# Altium schematic symbol library Schlib1.SchLib: 52 symbols (part 1 of 2)
Pins are listed as number, name and electrical type; pins without a type are passive.

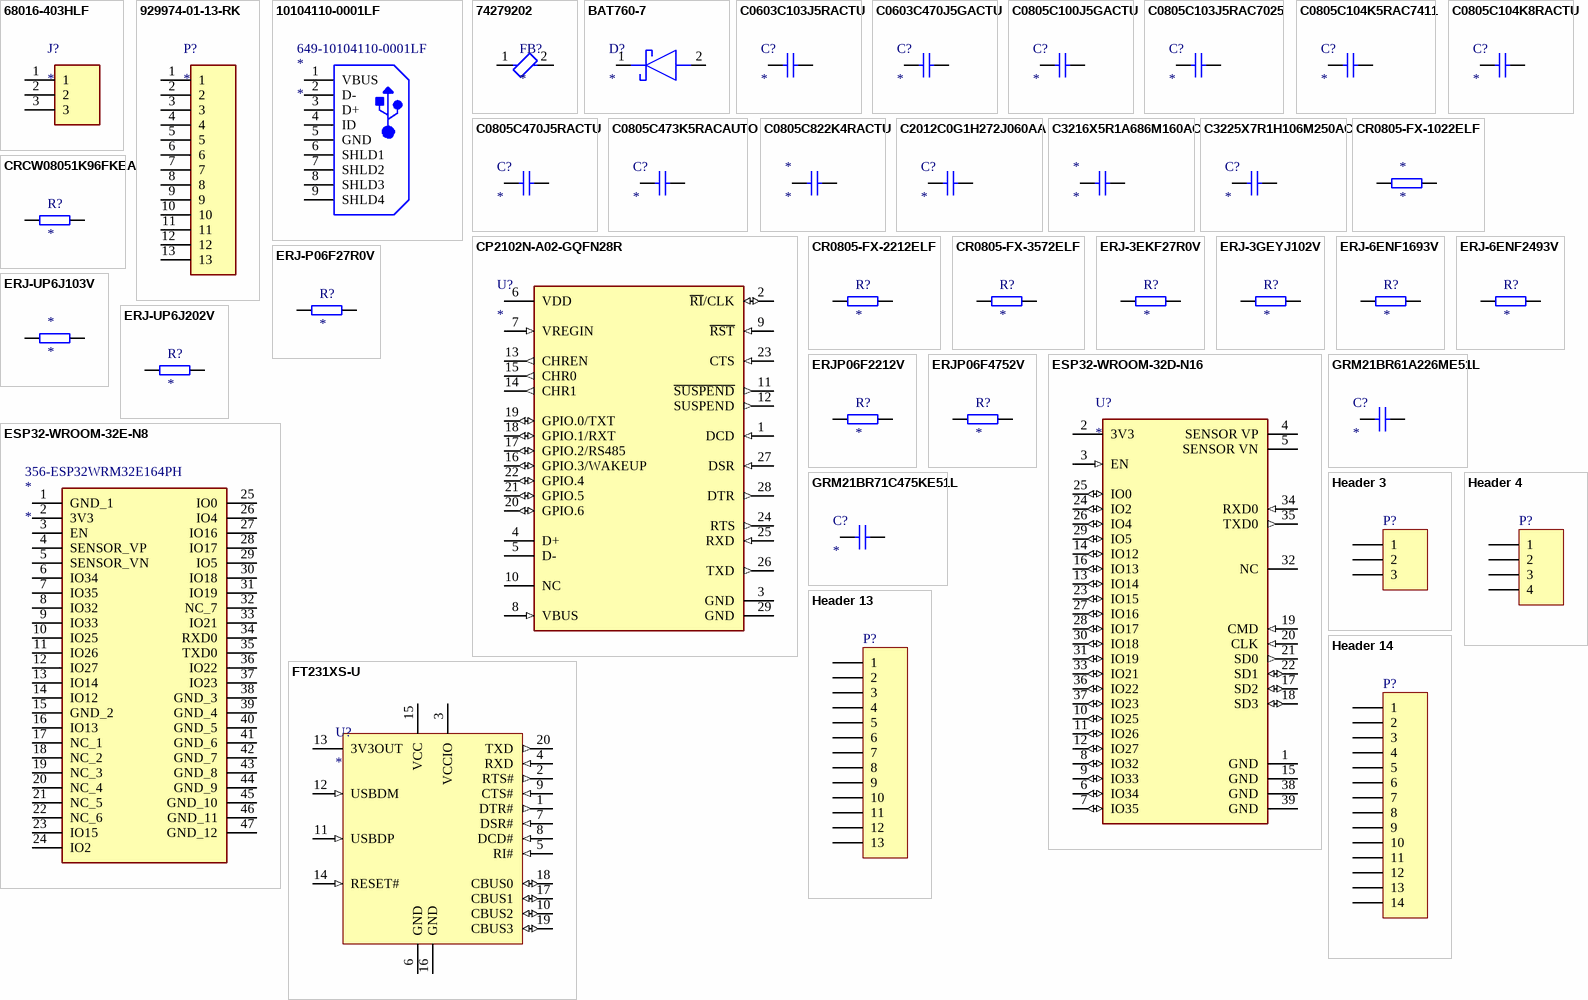
[diagram p0: symbols 68016-403HLF to Header 14]

## 68016-403HLF
designator J?
Conn Unshrouded Header HDR 3 POS 2.54mm Solder RA Side Entry Thru-Hole BergStik® Bulk; Manufacturer: Amphenol ICC / FCI; Manufacturer Part Number: 68016-403HLF; Supplier 1: Mouser; RoHS: Yes; Category: Headers and Wire Housings; Stock 1: 11331; Pricing 1: 1=0,18000, 10=0,09000, 50=0,09000, 100=0,08600, 1000=0,07500, 10000=0,06200 (USD); ComponentLink1URL: https://datasheet.ciiva.com/18653/68015-18653356.pdf?src-supplier=Digi-Key; ComponentLink1Description: https://datasheet.ciiva.com/18653/68015-18653356.pdf?src-supplier=Digi-Key; Supplier Part Number 1: 649-68016-403HLF
footprint HDRRA3W67P0X254_1X3_762X254X241P
pins: 1, 2, 3

## 929974-01-13-RK
designator P?
13/.100/STR/SKT/1R/.125/BM/TIN/ROHS Boardmount Socket, 929 Series; Manufacturer: 3M; Manufacturer Part Number: 929974-01-13-RK; Supplier 1: Mouser; RoHS: Yes; Category: Headers and Wire Housings; Stock 1: 368; Pricing 1: 1=2,42000, 10=1,97000, 50=1,97000, 100=1,88000, 1000=1,56000, 10000=1,18000 (USD); ComponentLink1URL: https://datasheet.ciiva.com/746/ts0815-746425.pdf?src-supplier=Digi-Key; ComponentLink1Description: https://datasheet.ciiva.com/746/ts0815-746425.pdf?src-supplier=Digi-Key; Supplier Part Number 1: 517-929974-01-13-RK
footprint RHDR13W76P0X254_1X13_3302X254X826P
pins: 1, 2, 3, 4, 5, 6, 7, 8, 9, 10, 11, 12, 13

## 10104110-0001LF
designator *  Supplier Part Number 1: 649-10104110-0001LF
Conn Micro USB 2.0 Type B RCP 5 POS 0.65mm Solder RA SMD 5 Terminal 1 Port T/R; Manufacturer: Amphenol ICC / FCI; Manufacturer Part Number: 10104110-0001LF; Supplier 1: Mouser; RoHS: No; Category: USB Connectors; Stock 1: 23329; Pricing 1: 1=0,83000, 10=0,65600, 50=0,65600, 100=0,57100, 1000=0,45600, 10000=0,40800 (USD); ComponentLink1URL: https://datasheet.ciiva.com/11731/0900766b80ed1ae6-11731334.pdf?src-supplier=RSComponents; ComponentLink1Description: https://datasheet.ciiva.com/11731/0900766b80ed1ae6-11731334.pdf?src-supplier=RSComponents; ComponentLink2URL: https://datasheet.ciiva.com/5726/10104110-5726973.pdf?src-supplier=Farnell; ComponentLink2Description: https://datasheet.ciiva.com/5726/10104110-5726973.pdf?src-supplier=Farnell
footprint 101041100001LF
pins: 1 VBUS (power), 2 D-, 3 D+, 4 ID, 5 GND (power), 6 SHLD1, 7 SHLD2, 8 SHLD3, 9 SHLD4

## 74279202
designator FB?
Ferrite SMD Construction form: 0805 DC resistance: 0.1 Ohm Impedance @ 100 MHz: 120 Ohm; Manufacturer: Wurth Electronics; Manufacturer Part Number: 74279202; Tolerance: 25%; Impedance: 120R; Max Current Rating: 500mA; DC Resistance (DCR): 100mR; Test Frequency: 100MHz; Number of Lines: 1; Supplier 1: Mouser; RoHS: Yes; Category: Ferrite Beads and Chips; Mount: Surface Mount; Case/Package: SMD/SMT; Case Code (Metric): 2012; Case Code (Imperial): 0805; Weight: 0.000388oz; Min Operating Temperature: -55°C; Max Operating Temperature: 125°C; Package Quantity: 1; Packaging: Tape and Reel; Max DC Current: 500mA; Termination: SMD/SMT; Series: WE-CBF; Current Rating: 500mA; Resistance: 100mR; Length: 2mm; Width: 1.2mm; Height: 0.9mm; Depth: 1.24mm; REACH SVHC: Unknown; RoHS Compliant: Yes; Lead Free: Lead Free; ComponentLink1URL: https://datasheet.ciiva.com/1126/1696029-1126528.pdf?src-supplier=Element14; ComponentLink1Description: https://datasheet.ciiva.com/1126/1696029-1126528.pdf?src-supplier=Element14; ComponentLink2URL: https://datasheet.ciiva.com/11795/0900766b80bbd134-11795958.pdf?src-supplier=RSComponents; ComponentLink2Description: https://datasheet.ciiva.com/11795/0900766b80bbd134-11795958.pdf?src-supplier=RSComponents; ComponentLink3URL: https://datasheet.ciiva.com/4940/74279202-50314-4940485.pdf?src-supplier=Mouser; ComponentLink3Description: https://datasheet.ciiva.com/4940/74279202-50314-4940485.pdf?src-supplier=Mouser; ComponentLink4URL: https://datasheet.ciiva.com/6212/74279202-6212647.pdf?src-supplier=Digi-Key; ComponentLink4Description: https://datasheet.ciiva.com/6212/74279202-6212647.pdf?src-supplier=Digi-Key; ComponentLink5URL: https://datasheet.ciiva.com/22711/1696029-22711339.pdf?src-supplier=Element14; ComponentLink5Description: https://datasheet.ciiva.com/22711/1696029-22711339.pdf?src-supplier=Element14; ComponentLink6URL: https://datasheet.ciiva.com/6212/74279202-6212651.pdf?src-supplier=Digi-Key; ComponentLink6Description: https://datasheet.ciiva.com/6212/74279202-6212651.pdf?src-supplier=Digi-Key; ComponentLink7URL: https://datasheet.ciiva.com/6212/74279202-6212654.pdf?src-supplier=Digi-Key; ComponentLink7Description: https://datasheet.ciiva.com/6212/74279202-6212654.pdf?src-supplier=Digi-Key; Supplier Part Number 1: 710-74279202
footprint SMD-0805 (Chip Inductor, 2-Leads, Body 2.0x1.2mm)
pins: 1, 2

## BAT760-7
designator D?
VR=30V IF=1A 25pF P=235mW; Manufacturer: Diodes; Manufacturer Part Number: BAT760-7; Forward Current: 1A; Max Repetitive Reverse Voltage (Vrrm): 30V; Peak Non-Repetitive Surge Current: 5.5A; Element Configuration: Single; Max Power Dissipation: 235mW; Forward Voltage: 550mV; Max Reverse Current: 50uA; Polarity: Standard; Supplier 1: Mouser; RoHS: Yes; Category: Schottky Diodes; Stock 1: 2322; Pricing 1: 1=0,57000, 10=0,49500, 50=0,49500, 100=0,37000, 1000=0,22500, 10000=0,17300 (USD); Mount: Surface Mount; Number of Pins: 2; Weight: 0.000173oz; Contact Plating: Tin,Matte; Min Operating Temperature: -65°C; Max Operating Temperature: 150°C; Package Quantity: 3000; Packaging: Tape and Reel; Max Forward Surge Current (Ifsm): 5.5A; Average Rectified Current: 1A; Termination: SMD/SMT; Voltage Rating (DC): 30V; Current Rating: 1A; Capacitance: 25pF; Output Current: 1A; Max Reverse Voltage (DC): 30V; Series: -; Length: 1.8mm; Width: 1.4mm; Height: 1mm; Radiation Hardening: No; REACH SVHC: No SVHC; Lead Free: Lead Free; RoHS Compliant: Yes; ComponentLink1URL: https://datasheet.ciiva.com/1178/ds30498-1178033.pdf?src-supplier=Element14; ComponentLink1Description: https://datasheet.ciiva.com/1178/ds30498-1178033.pdf?src-supplier=Element14; ComponentLink2URL: https://datasheet.ciiva.com/4715/ds30498-63155-4715521.pdf?src-supplier=Mouser; ComponentLink2Description: https://datasheet.ciiva.com/4715/ds30498-63155-4715521.pdf?src-supplier=Mouser; ComponentLink3URL: https://datasheet.ciiva.com/8301/ds30498-8301400.pdf?src-supplier=Avnet; ComponentLink3Description: https://datasheet.ciiva.com/8301/ds30498-8301400.pdf?src-supplier=Avnet; ComponentLink4URL: https://datasheet.ciiva.com/22695/1670989-22695799.pdf?src-supplier=Element14; ComponentLink4Description: https://datasheet.ciiva.com/22695/1670989-22695799.pdf?src-supplier=Element14; ComponentLink5URL: https://datasheet.ciiva.com/914/ds30498-914552.pdf?src-supplier=Digi-Key; ComponentLink5Description: https://datasheet.ciiva.com/914/ds30498-914552.pdf?src-supplier=Digi-Key; ComponentLink6URL: https://datasheet.ciiva.com/914/ds30498-914553.pdf?src-supplier=Digi-Key; ComponentLink6Description: https://datasheet.ciiva.com/914/ds30498-914553.pdf?src-supplier=Digi-Key; ComponentLink7URL: https://datasheet.ciiva.com/914/ds30498-914551.pdf?src-supplier=Digi-Key; ComponentLink7Description: https://datasheet.ciiva.com/914/ds30498-914551.pdf?src-supplier=Digi-Key; Supplier Part Number 1: 621-BAT760-7
footprint SOD2513X120N
pins: 1 K, 2 A

## C0603C103J5RACTU
designator C?
Cap Ceramic 0.01uF 50V X7R 5% SMD 0603 125C T/R; Manufacturer: KEMET; Manufacturer Part Number: C0603C103J5RACTU; Capacitance: 10nF; Dissipation Factor: 2.5%; Supplier 1: Mouser; RoHS: Yes; Category: Ceramic Capacitors; Stock 1: 1307405; Pricing 1: 1=0,10000, 10=0,03200, 50=0,03200, 100=0,01700, 500=0,01400, 1000=0,01100, 4000=0,00900, 10000=0,00900, 12000=0,00800 (USD); Mount: Surface Mount,PCB; Case/Package: 0603; Number of Pins: 2; Contact Plating: Tin,Matte; Case Code (Imperial): 0603; Case Code (Metric): 1608; Dielectric Material: Ceramic; Min Operating Temperature: -55°C; Max Operating Temperature: 125°C; Tolerance: 5%; Packaging: Tape and Reel; Dielectric: X7R; Package Quantity: 1; Series: C; Voltage Rating: 50V; Voltage Rating (DC): 50V; Termination: SMD/SMT; Construction: Flat; Voltage: 50V; Length: 1.6mm; Width: 0.031inch; Height: 0.8mm; Depth: 0.8mm; Thickness: 0.034inch; Lead Pitch: 0.7mm; Radiation Hardening: No; REACH SVHC: No SVHC; RoHS Compliant: Yes; ComponentLink1URL: https://datasheet.ciiva.com/22749/kem-c1002-x7r-smd-22749720.pdf?src-supplier=Element14; ComponentLink1Description: https://datasheet.ciiva.com/22749/kem-c1002-x7r-smd-22749720.pdf?src-supplier=Element14; ComponentLink2URL: https://datasheet.ciiva.com/26847/getdatasheetpartid-317400-26847516.pdf?src-supplier=Verical; ComponentLink2Description: https://datasheet.ciiva.com/26847/getdatasheetpartid-317400-26847516.pdf?src-supplier=Verical; Supplier Part Number 1: 80-C0603C103J5R
footprint FP-C0603C-CF-IPC_A
footprint FP-C0603C-CF-IPC_B
footprint FP-C0603C-CF-IPC_C
footprint FP-C0603C-CF-MFG
pins: 1, 2

## C0603C470J5GACTU
designator C?
Cap Ceramic 47pF 50V C0G 5% Pad SMD 0603 125°C Extreme Low ESR T/R; Manufacturer: KEMET; Manufacturer Part Number: C0603C470J5GACTU; Temperature Coefficient: 30ppm/°C; Supplier 1: Mouser; RoHS: Yes; Category: Ceramic Capacitors; Stock 1: 161090; Pricing 1: 1=0,22000, 10=0,10400, 50=0,10400, 100=0,06300, 500=0,05600, 1000=0,04700, 4000=0,03700, 10000=0,03700 (USD); Mount: Surface Mount,PCB; Case/Package: 0603; Number of Pins: 2; Case Code (Imperial): 0603; Case Code (Metric): 1608; Contact Material: Tin; Contact Plating: Tin,Matte; Dielectric Material: Ceramic; Min Operating Temperature: -55°C; Max Operating Temperature: 125°C; Capacitance: 47pF; Tolerance: 5%; Voltage Rating: 50V; Voltage Rating (DC): 50V; Package Quantity: 1; Packaging: Tape and Reel; Dielectric: C0G; Termination: SMD/SMT; Voltage: 50V; Series: C; Construction: Flat; Length: 1.6mm; Width: 0.031inch; Height: 0.8mm; Lead Pitch: 0.7mm; Thickness: 0.034inch; Depth: 0.8mm; Radiation Hardening: No; REACH SVHC: No SVHC; Lead Free: Lead Free; RoHS Compliant: Yes; ComponentLink1URL: https://datasheet.ciiva.com/144/docfinderpartnumber-c0603c470j5gactu-144266.pdf?src-supplier=Digi-Key; ComponentLink1Description: https://datasheet.ciiva.com/144/docfinderpartnumber-c0603c470j5gactu-144266.pdf?src-supplier=Digi-Key; ComponentLink2URL: https://datasheet.ciiva.com/7823/kem-c1003-c0g-smd-7823781.pdf?src-supplier=Element14; ComponentLink2Description: https://datasheet.ciiva.com/7823/kem-c1003-c0g-smd-7823781.pdf?src-supplier=Element14; ComponentLink3URL: https://datasheet.ciiva.com/7823/kem-c1003-c0g-smd-7823782.pdf?src-supplier=Element14; ComponentLink3Description: https://datasheet.ciiva.com/7823/kem-c1003-c0g-smd-7823782.pdf?src-supplier=Element14; ComponentLink4URL: https://datasheet.ciiva.com/14588/70095383-14588998.pdf?src-supplier=Allied+Electronics; ComponentLink4Description: https://datasheet.ciiva.com/14588/70095383-14588998.pdf?src-supplier=Allied+Electronics; ComponentLink5URL: https://datasheet.ciiva.com/32432/kem-c1003-c0g-eng-tds-32432423.pdf?src-supplier=Distrelec; ComponentLink5Description: https://datasheet.ciiva.com/32432/kem-c1003-c0g-eng-tds-32432423.pdf?src-supplier=Distrelec; ComponentLink6URL: https://datasheet.ciiva.com/18193/getdatasheetpartid-120905-18193050.pdf?src-supplier=Verical; ComponentLink6Description: https://datasheet.ciiva.com/18193/getdatasheetpartid-120905-18193050.pdf?src-supplier=Verical; Supplier Part Number 1: 80-C0603C470J5G
footprint FP-C0603C-CF-IPC_A
footprint FP-C0603C-CF-IPC_B
footprint FP-C0603C-CF-IPC_C
footprint FP-C0603C-CF-MFG
pins: 1, 2

## C0805C100J5GACTU
designator C?
Cap Ceramic 10pF 50V C0G 5% SMD 0805 125C Plastic T/R; Manufacturer: KEMET; Manufacturer Part Number: C0805C100J5GACTU; Temperature Coefficient: 30ppm/°C; Dissipation Factor: 0.1%; Supplier 1: Mouser; RoHS: Yes; Category: Ceramic Capacitors; Stock 1: 194709; Pricing 1: 1=0,12000, 10=0,04800, 50=0,04800, 100=0,03200, 500=0,02300, 1000=0,01900, 4000=0,01800, 8000=0,01500, 10000=0,01500 (USD); Mount: PCB,Surface Mount; Case/Package: 0805; Number of Pins: 2; Case Code (Metric): 2012; Case Code (Imperial): 0805; Contact Material: Tin; Contact Plating: Tin,Matte; Dielectric Material: Ceramic; Min Operating Temperature: -55°C; Max Operating Temperature: 125°C; Capacitance: 10pF; Tolerance: 5%; Package Quantity: 4000; Voltage Rating: 50V; Packaging: Tape and Reel; Voltage Rating (DC): 50V; Dielectric: C0G; Termination: SMD/SMT; Voltage: 50V; Series: C0805C; Construction: Flat; Length: 2mm; Width: 1.2mm; Height: 0.78mm; Thickness: 0.035inch; Lead Pitch: 0.75mm; Depth: 1.25mm; Radiation Hardening: No; REACH SVHC: No SVHC; Lead Free: Lead Free; RoHS Compliant: Yes; ComponentLink1URL: https://datasheet.ciiva.com/6177/kem-c1003-c0g-smd-6177333.pdf?src-supplier=Farnell; ComponentLink1Description: https://datasheet.ciiva.com/6177/kem-c1003-c0g-smd-6177333.pdf?src-supplier=Farnell; ComponentLink2URL: https://datasheet.ciiva.com/14609/70095383-14609227.pdf?src-supplier=Allied+Electronics; ComponentLink2Description: https://datasheet.ciiva.com/14609/70095383-14609227.pdf?src-supplier=Allied+Electronics; ComponentLink3URL: https://datasheet.ciiva.com/5423/kem-c1003-c0g-smd-356956-5423483.pdf?src-supplier=Mouser; ComponentLink3Description: https://datasheet.ciiva.com/5423/kem-c1003-c0g-smd-356956-5423483.pdf?src-supplier=Mouser; ComponentLink4URL: https://datasheet.ciiva.com/2988/kem-c1003-c0g-smd-2988556.pdf?src-supplier=Avnet; ComponentLink4Description: https://datasheet.ciiva.com/2988/kem-c1003-c0g-smd-2988556.pdf?src-supplier=Avnet; Supplier Part Number 1: 80-C0805C100J5G
footprint FP-C0805C-DN-IPC_A
footprint FP-C0805C-DN-IPC_B
footprint FP-C0805C-DN-IPC_C
footprint FP-C0805C-DN-MFG
pins: 1, 2

## C0805C103J5RAC7025
designator C?
Cap Ceramic 0.01uF 50V X7R 5% SMD 0805 125°C Paper T/R; Manufacturer: KEMET; Manufacturer Part Number: C0805C103J5RAC7025; Capacitance: 10nF; Supplier 1: Mouser; RoHS: Yes; Category: Ceramic Capacitors; Stock 1: 20879; Pricing 1: 1=0,12000, 10=0,07600, 50=0,07600, 100=0,03600, 1000=0,02300, 10000=0,01800 (USD); Mount: Surface Mount; Case/Package: 0805; Case Code (Imperial): 0805; Case Code (Metric): 2012; Dielectric Material: Ceramic; Min Operating Temperature: -55°C; Max Operating Temperature: 125°C; Tolerance: 5%; Dielectric: X7R; Packaging: Tape and Reel; Package Quantity: 4000; Voltage Rating: 50V; Voltage Rating (DC): 50V; Termination: SMD/SMT; Series: C0805C; Construction: Flat; Length: 2mm; Height: 0.78mm; Depth: 1.25mm; Lead Pitch: 0.75mm; Radiation Hardening: No; RoHS Compliant: Yes; ComponentLink1URL: http://www.mouser.com/ds/2/212/KEM_C1002_X7R_SMD-1102033.pdf?src-supplier=Mouser; ComponentLink1Description: http://www.mouser.com/ds/2/212/KEM_C1002_X7R_SMD-1102033.pdf?src-supplier=Mouser; Supplier Part Number 1: 80-C0805C103J5RACTM
footprint FP-C0805C-DN-IPC_A
footprint FP-C0805C-DN-IPC_B
footprint FP-C0805C-DN-IPC_C
footprint FP-C0805C-DN-MFG
pins: 1, 2

## C0805C104K5RAC7411
designator C?
Cap Ceramic 0.1uF 50V X7R 10% SMD 0805 125°C Paper T/R; Manufacturer: KEMET; Manufacturer Part Number: C0805C104K5RAC7411; Capacitance: 100nF; Supplier 1: Mouser; RoHS: Yes; Category: Ceramic Capacitors; Stock 1: 1484324; Pricing 1: 1=0,13000, 10=0,09300, 50=0,09300, 100=0,04400, 500=0,03100, 1000=0,02600, 2500=0,02400, 5000=0,02200, 10000=0,02100, 15000=0,02000 (USD); Mount: Surface Mount; Case/Package: 0805; Dielectric Material: Ceramic; Min Operating Temperature: -55°C; Max Operating Temperature: 125°C; Packaging: Tape and Reel; Tolerance: 10%; Dielectric: X7R; Voltage Rating (DC): 50V; Construction: Flat; Length: 2mm; Height: 0.9mm; Depth: 1.25mm; Radiation Hardening: No; RoHS Compliant: Yes; ComponentLink1URL: http://components.arrow.com/part/dataview/30748302S8994022N7429?src-supplier=Arrow+Electronics; ComponentLink1Description: http://components.arrow.com/part/dataview/30748302S8994022N7429?src-supplier=Arrow+Electronics; ComponentLink2URL: https://www.verical.com/server-webapp/html/getDatasheet?partID=248513&src-supplier=Verical; ComponentLink2Description: https://www.verical.com/server-webapp/html/getDatasheet?partID=248513&src-supplier=Verical; Supplier Part Number 1: 80-C0805C104K5RACLR
footprint FP-C0805C-DN-IPC_A
footprint FP-C0805C-DN-IPC_B
footprint FP-C0805C-DN-IPC_C
footprint FP-C0805C-DN-MFG
pins: 1, 2

## C0805C104K8RACTU
designator C?
Cap Ceramic 0.1uF 10V X7R 10% SMD 0805 125°C Paper T/R; Manufacturer: KEMET; Manufacturer Part Number: C0805C104K8RACTU; Capacitance: 100nF; Dissipation Factor: 5%; Supplier 1: Mouser; RoHS: Yes; Category: Ceramic Capacitors; Stock 1: 26277; Pricing 1: 1=0,18000, 10=0,08600, 50=0,08600, 100=0,08600, 1000=0,08600, 10000=0,08500 (USD); Mount: Surface Mount; Case/Package: 0805; Case Code (Imperial): 0805; Case Code (Metric): 2012; Dielectric Material: Ceramic; Min Operating Temperature: -55°C; Max Operating Temperature: 125°C; Package Quantity: 1; Tolerance: 10%; Packaging: Tape and Reel; Voltage Rating: 10V; Voltage Rating (DC): 10V; Dielectric: X7R; Termination: SMD/SMT; Series: C; Length: 2mm; Width: 1.2mm; Height: 0.9mm; Lead Pitch: 0.75mm; Thickness: 0.035inch; Depth: 1.25mm; REACH SVHC: No SVHC; RoHS Compliant: Yes; ComponentLink1URL: http://components.arrow.com/part/dataview/2091095S5871853N7429?src-supplier=Arrow+Electronics; ComponentLink1Description: http://components.arrow.com/part/dataview/2091095S5871853N7429?src-supplier=Arrow+Electronics; ComponentLink2URL: http://www.farnell.com/datasheets/2323363.pdf?src-supplier=Farnell; ComponentLink2Description: http://www.farnell.com/datasheets/2323363.pdf?src-supplier=Farnell; ComponentLink3URL: http://www.mouser.com/ds/2/212/KEM_C1002_X7R_SMD-1102033.pdf?src-supplier=Mouser; ComponentLink3Description: http://www.mouser.com/ds/2/212/KEM_C1002_X7R_SMD-1102033.pdf?src-supplier=Mouser; ComponentLink4URL: http://www.farnell.com/datasheets/2746328.pdf?src-supplier=Farnell; ComponentLink4Description: http://www.farnell.com/datasheets/2746328.pdf?src-supplier=Farnell; ComponentLink5URL: http://www.farnell.com/datasheets/2746328.pdf?src-supplier=Newark; ComponentLink5Description: http://www.farnell.com/datasheets/2746328.pdf?src-supplier=Newark; ComponentLink6URL: https://api.kemet.com/component-edge/download/datasheet/C0805C104K8RACTU.pdf?src-supplier=Digi-Key; ComponentLink6Description: https://api.kemet.com/component-edge/download/datasheet/C0805C104K8RACTU.pdf?src-supplier=Digi-Key; Supplier Part Number 1: 80-C0805C104K8R
footprint FP-C0805C-DN-IPC_A
footprint FP-C0805C-DN-IPC_B
footprint FP-C0805C-DN-IPC_C
footprint FP-C0805C-DN-MFG
pins: 1, 2

## C0805C470J5RACTU
designator C?
47.0Pf 50.0V Rohs Compliant: Yes; Manufacturer: KEMET; Manufacturer Part Number: C0805C470J5RACTU; Capacitance: 47pF; Supplier 1: Mouser; RoHS: Yes; Category: Ceramic Capacitors; Stock 1: 9354; Pricing 1: 1=0,28000, 10=0,19800, 50=0,19800, 100=0,11200, 1000=0,06900, 10000=0,06000 (USD); RoHS Compliant: Yes; Supplier Part Number 1: 80-C0805C470J5RACTU
footprint FP-C0805C-DN-IPC_A
footprint FP-C0805C-DN-IPC_B
footprint FP-C0805C-DN-MFG
footprint FP-C0805C-DN-IPC_C
pins: 1, 2

## C0805C473K5RACAUTO
designator C?
KEMET   C0805C473K5RACAUTO   Multilayer Ceramic Capacitor, AEC-Q200 MLCC Series, 0.047 F,  10%, X7R, 50 V; Capacitance: 47nF; Voltage Rating: 50V; Supplier 1: Mouser; Manufacturer: KEMET; Manufacturer Part Number: C0805C473K5RACAUTO; RoHS: Yes; Category: Ceramic Capacitors; Stock 1: 55914; Pricing 1: 1=0,19000, 10=0,07900, 50=0,07900, 100=0,06700, 500=0,04600, 1000=0,04100, 4000=0,03800, 8000=0,03700, 10000=0,03700, 12000=0,03600, 24000=0,03500 (USD); Mount: Surface Mount; Case/Package: 0805; Case Code (Metric): 2012; Case Code (Imperial): 0805; Contact Plating: Tin,Matte; Dielectric Material: Ceramic; Min Operating Temperature: -55°C; Max Operating Temperature: 125°C; Tolerance: 10%; Dielectric: X7R; Package Quantity: 1; Packaging: Tape and Reel; Voltage Rating (DC): 50V; Termination: SMD/SMT; Series: C; Construction: Flat; Length: 2mm; Width: 0.049inch; Height: 0.78mm; Depth: 1.25mm; Thickness: 0.035inch; Ratings: AEC-Q200; Radiation Hardening: No; REACH SVHC: No SVHC; RoHS Compliant: Yes; ComponentLink1URL: https://datasheet.ciiva.com/7842/1633156-7842358.pdf?src-supplier=Element14; ComponentLink1Description: https://datasheet.ciiva.com/7842/1633156-7842358.pdf?src-supplier=Element14; ComponentLink2URL: https://datasheet.ciiva.com/22704/1633156-22704879.pdf?src-supplier=Element14; ComponentLink2Description: https://datasheet.ciiva.com/22704/1633156-22704879.pdf?src-supplier=Element14; Supplier Part Number 1: 80-C0805C473K5RAUTO
footprint FP-C0805C-DN-IPC_A
footprint FP-C0805C-DN-IPC_B
footprint FP-C0805C-DN-IPC_C
footprint FP-C0805C-DN-MFG
pins: 1, 2

## C0805C822K4RACTU
designator *
Capacitor, Ceramic, 8.2nF, 16VDC, 10-% Tol, 10+% Tol, X7R-TC Code, -15, 15%-TC RoHS Compliant: Yes; Manufacturer: KEMET; Manufacturer Part Number: C0805C822K4RACTU; Tolerance: 10%; Voltage Rating: 16V; Dielectric: X7R; Dissipation Factor: 5%; Supplier 1: Mouser; RoHS: Yes; Category: Ceramic Capacitors; Stock 1: 3964; Pricing 1: 1=0,31000, 10=0,21500, 50=0,21500, 100=0,12200, 1000=0,07500, 10000=0,06600 (USD); Mount: Surface Mount; Case/Package: 0805; Case Code (Metric): 2012; Case Code (Imperial): 0805; Dielectric Material: Ceramic; Min Operating Temperature: -55°C; Max Operating Temperature: 125°C; Capacitance: 8.2nF; Packaging: Tape and Reel; Package Quantity: 4000; Voltage Rating (DC): 16V; Termination: SMD/SMT; Series: C; Length: 2mm; Width: 0.049inch; Height: 0.78mm; Thickness: 0.035inch; Lead Pitch: 0.75mm; Depth: 1.25mm; RoHS Compliant: Yes; ComponentLink1URL: http://www.mouser.com/ds/2/212/KEM_C1002_X7R_SMD-1102033.pdf?src-supplier=Mouser; ComponentLink1Description: http://www.mouser.com/ds/2/212/KEM_C1002_X7R_SMD-1102033.pdf?src-supplier=Mouser; ComponentLink2URL: http://components.arrow.com/part/dataview/3450560S8615350N7429?src-supplier=Arrow+Electronics; ComponentLink2Description: http://components.arrow.com/part/dataview/3450560S8615350N7429?src-supplier=Arrow+Electronics; ComponentLink3URL: https://search.kemet.com/component-edge/download/datasheet/C0805C822K4RACTU.pdf?src-supplier=Digi-Key; ComponentLink3Description: https://search.kemet.com/component-edge/download/datasheet/C0805C822K4RACTU.pdf?src-supplier=Digi-Key; Supplier Part Number 1: 80-C0805C822K4R
footprint FP-C0805C-DN-IPC_A
footprint FP-C0805C-DN-IPC_B
footprint FP-C0805C-DN-IPC_C
footprint FP-C0805C-DN-MFG
pins: 1, 2

## C2012C0G1H272J060AA
designator C?
Cap Ceramic 0.0027uF 50V C0G 5% SMD 0805 125C Paper T/R; Manufacturer: TDK; Manufacturer Part Number: C2012C0G1H272J060AA; Capacitance: 2.7nF; Temperature Coefficient: 30ppm/°C; Supplier 1: Mouser; RoHS: Yes; Category: Ceramic Capacitors; Stock 1: 7246; Pricing 1: 1=0,21000, 10=0,14700, 50=0,14700, 100=0,07000, 500=0,04900, 1000=0,04100, 2000=0,03800, 4000=0,03400, 8000=0,03100, 10000=0,03100 (USD); Mount: Surface Mount; Case/Package: 0805; Case Code (Imperial): 0805; Case Code (Metric): 2012; Weight: 0.000194oz; Dielectric Material: Ceramic; Min Operating Temperature: -55°C; Max Operating Temperature: 125°C; Packaging: Tape and Reel; Voltage Rating: 50V; Tolerance: 5%; Voltage Rating (DC): 50V; Termination: SMD/SMT; Construction: Flat; Package Quantity: 1; Dielectric: C0G; Voltage: 50V; Series: C; Length: 2mm; Width: 1.25mm; Height: 0.6mm; Thickness: 0.028inch; Depth: 1.25mm; Radiation Hardening: No; RoHS Compliant: Yes; Lead Free: Lead Free; ComponentLink1URL: https://datasheet.ciiva.com/24219/c2012c0g1h272j060aa-264945-24219106.pdf?src-supplier=Mouser; ComponentLink1Description: https://datasheet.ciiva.com/24219/c2012c0g1h272j060aa-264945-24219106.pdf?src-supplier=Mouser; ComponentLink2URL: https://datasheet.ciiva.com/11788/0900766b80c1bb00-11788104.pdf?src-supplier=RSComponents; ComponentLink2Description: https://datasheet.ciiva.com/11788/0900766b80c1bb00-11788104.pdf?src-supplier=RSComponents; ComponentLink3URL: https://datasheet.ciiva.com/26936/getdatasheetpartid-781773-26936472.pdf?src-supplier=Verical; ComponentLink3Description: https://datasheet.ciiva.com/26936/getdatasheetpartid-781773-26936472.pdf?src-supplier=Verical; ComponentLink4URL: https://datasheet.ciiva.com/6291/tdkmlcccaprange-6291707.pdf?src-supplier=Digi-Key; ComponentLink4Description: https://datasheet.ciiva.com/6291/tdkmlcccaprange-6291707.pdf?src-supplier=Digi-Key; ComponentLink5URL: https://datasheet.ciiva.com/6291/tdkmlcccaprange-6291704.pdf?src-supplier=Digi-Key; ComponentLink5Description: https://datasheet.ciiva.com/6291/tdkmlcccaprange-6291704.pdf?src-supplier=Digi-Key; ComponentLink6URL: https://datasheet.ciiva.com/6291/tdkmlcccaprange-6291710.pdf?src-supplier=Digi-Key; ComponentLink6Description: https://datasheet.ciiva.com/6291/tdkmlcccaprange-6291710.pdf?src-supplier=Digi-Key; Supplier Part Number 1: 810-C2012C0G1H272J-1
footprint FP-C2012-060-0_2-IPC_A
footprint FP-C2012-060-0_2-IPC_B
footprint FP-C2012-060-0_2-IPC_C
footprint FP-C2012-060-0_2-MFG
pins: 1, 2

## C3216X5R1A686M160AC
designator *
C Series 1206 68 uF 10 V ±20 % Tolerance X5R SMT Multilayer Ceramic Capacitor; Manufacturer: TDK; Manufacturer Part Number: C3216X5R1A686M160AC; Capacitance: 68uF; Tolerance: 20%; Voltage Rating: 10V; Supplier 1: Mouser; RoHS: Yes; Category: Ceramic Capacitors; Stock 1: 21577; Pricing 1: 1=1,39000, 10=0,98700, 50=0,98700, 100=0,84800, 500=0,64600, 1000=0,57000, 2000=0,53100, 4000=0,51500, 10000=0,49900, 24000=0,48400 (USD); Mount: Surface Mount; Case/Package: 1206; Case Code (Metric): 3216; Case Code (Imperial): 1206; Dielectric Material: Ceramic; Min Operating Temperature: -55°C; Max Operating Temperature: 85°C; Package Quantity: 2000; Packaging: Tape and Reel; Termination: SMD/SMT; Resistor Type: Ceramic; Voltage Rating (DC): 10V; Series: C; Dielectric: X5R; Length: 0.126inch; Width: 1.6mm; Height: 1.6mm; Thickness: 0.071inch; Lead Free: Lead Free; RoHS Compliant: Yes; ComponentLink1URL: http://www.mouser.com/ds/2/400/tdk_mlcc_commercial_general_en-542463.pdf?src-supplier=Mouser; ComponentLink1Description: http://www.mouser.com/ds/2/400/tdk_mlcc_commercial_general_en-542463.pdf?src-supplier=Mouser; ComponentLink2URL: http://www.farnell.com/datasheets/2792994.pdf?src-supplier=Farnell; ComponentLink2Description: http://www.farnell.com/datasheets/2792994.pdf?src-supplier=Farnell; ComponentLink3URL: https://product.tdk.com/info/en/documents/chara_sheet/C3216X5R1A686M160AC.pdf?src-supplier=Digi-Key; ComponentLink3Description: https://product.tdk.com/info/en/documents/chara_sheet/C3216X5R1A686M160AC.pdf?src-supplier=Digi-Key; ComponentLink4URL: http://www.farnell.com/datasheets/2370676.pdf?src-supplier=Newark; ComponentLink4Description: http://www.farnell.com/datasheets/2370676.pdf?src-supplier=Newark; ComponentLink5URL: https://product.tdk.com/en/products/common/pdf/mlcc_partnumber_description.pdf?src-supplier=Digi-Key; ComponentLink5Description: https://product.tdk.com/en/products/common/pdf/mlcc_partnumber_description.pdf?src-supplier=Digi-Key; ComponentLink6URL: http://product.tdk.com/en/catalog/datasheets/mlcc_commercial_general_en.pdf?src-supplier=Avnet; ComponentLink6Description: http://product.tdk.com/en/catalog/datasheets/mlcc_commercial_general_en.pdf?src-supplier=Avnet; Supplier Part Number 1: 810-C3216X5R1A686M1C
footprint FP-C3216-160-0_3-IPC_A
footprint FP-C3216-160-0_3-IPC_B
footprint FP-C3216-160-0_3-MFG
footprint FP-C3216-160-0_3-IPC_C
pins: 1, 2

## C3225X7R1H106M250AC
designator C?
C Series 1210 10 uF 50 V ±20 % Tolerance X7R SMT Multilayer Ceramic Capacitor; Manufacturer: TDK; Manufacturer Part Number: C3225X7R1H106M250AC; Capacitance: 10uF; Tolerance: 20%; Voltage Rating: 50V; Supplier 1: Mouser; RoHS: Yes; Category: Ceramic Capacitors; Stock 1: 4502; Pricing 1: 1=0,96000, 10=0,62100, 50=0,62100, 100=0,53500, 500=0,41400, 1000=0,40000, 10000=0,40000 (USD); Mount: Surface Mount; Case/Package: 1210; Case Code (Metric): 3225; Weight: 0.000564oz; Case Code (Imperial): 1210; Dielectric Material: Ceramic; Min Operating Temperature: -55°C; Max Operating Temperature: 125°C; Package Quantity: 1000; Packaging: Tape and Reel; Dielectric: X7R; Termination: SMD/SMT; Voltage Rating (DC): 50V; Length: 0.126inch; Width: 0.098inch; Height: 2.5mm; Thickness: 0.11inch; REACH SVHC: No SVHC; Lead Free: Lead Free; ComponentLink1URL: http://www.farnell.com/datasheets/2792994.pdf?src-supplier=Farnell; ComponentLink1Description: http://www.farnell.com/datasheets/2792994.pdf?src-supplier=Farnell; ComponentLink2URL: http://www.mouser.com/ds/2/400/tdk_mlcc_commercial_general_en-542463.pdf?src-supplier=Mouser; ComponentLink2Description: http://www.mouser.com/ds/2/400/tdk_mlcc_commercial_general_en-542463.pdf?src-supplier=Mouser; ComponentLink3URL: https://product.tdk.com/info/en/documents/chara_sheet/C3225X7R1H106M250AC.pdf?src-supplier=Digi-Key; ComponentLink3Description: https://product.tdk.com/info/en/documents/chara_sheet/C3225X7R1H106M250AC.pdf?src-supplier=Digi-Key; ComponentLink4URL: http://product.tdk.com/capacitor/mlcc/en/documents/mlcc_commercial_general_en.pdf?src-supplier=Avnet; ComponentLink4Description: http://product.tdk.com/capacitor/mlcc/en/documents/mlcc_commercial_general_en.pdf?src-supplier=Avnet; ComponentLink5URL: http://www.farnell.com/datasheets/1913358.pdf?src-supplier=Element14; ComponentLink5Description: http://www.farnell.com/datasheets/1913358.pdf?src-supplier=Element14; ComponentLink6URL: http://www.farnell.com/datasheets/2291921.pdf?src-supplier=Newark; ComponentLink6Description: http://www.farnell.com/datasheets/2291921.pdf?src-supplier=Newark; Supplier Part Number 1: 810-C3225X7R1H106MAC
footprint FP-C3225-250-0_4-IPC_A
footprint FP-C3225-250-0_4-IPC_B
footprint FP-C3225-250-0_4-IPC_C
footprint FP-C3225-250-0_4-MFG
pins: 1, 2

## CP2102N-A02-GQFN28R
designator U?
Full Speed USB to UART Bridge USB 2.0 3.3V T/R Automotive 28-Pin QFN EP; Manufacturer: Silicon Labs; Manufacturer Part Number: CP2102N-A02-GQFN28R; Supplier 1: Mouser; RoHS: Yes; Category: USB Interface ICs; Stock 1: 332; Pricing 1: 1=2,27000, 10=2,27000, 50=2,27000, 100=2,27000, 1000=2,27000, 10000=2,27000 (USD); Supplier Part Number 1: 634-CP2102NA02QFN28R
footprint FP-CP2102N-A02-GQFN28R-IPC_A
footprint FP-CP2102N-A02-GQFN28R-IPC_B
footprint FP-CP2102N-A02-GQFN28R-IPC_C
footprint FP-CP2102N-A02-GQFN28R-MFG
pins: 1 DCD (in), 2 ~{RI}/CLK (io), 3 GND (power), 4 D+, 5 D-, 6 VDD (power), 7 VREGIN (in), 8 VBUS (in), 9 ~{RST} (in), 10 NC, 11 ~{SUSPEND} (out), 12 SUSPEND (out), 13 CHREN (out), 14 CHR1 (out), 15 CHR0 (out), 16 GPIO.3/WAKEUP (io), 17 GPIO.2/RS485 (io), 18 GPIO.1/RXT (io), 19 GPIO.0/TXT (io), 20 GPIO.6 (io), 21 GPIO.5 (io), 22 GPIO.4 (io), 23 CTS (in), 24 RTS (out), 25 RXD (in), 26 TXD (out), 27 DSR (in), 28 DTR (out), 29 GND (power)

## CR0805-FX-1022ELF
designator *
Res Thick Film 0805 10.2K Ohm 1% 1/8W ±100ppm/°C Molded SMD SMD Paper Tape on Plastic Reel; Manufacturer: Bourns; Manufacturer Part Number: CR0805-FX-1022ELF; Resistance: 10.2kR; Power Rating: 125mW; Voltage Rating: 150V; Supplier 1: Mouser; RoHS: Yes; Category: Chip SMD Resistors; Stock 1: 45271; Pricing 1: 1=0,10000, 10=0,05000, 50=0,05000, 100=0,02100, 1000=0,01000, 10000=0,00500 (USD); Mount: Surface Mount; Case/Package: 0805; Case Code (Metric): 2012; Case Code (Imperial): 0805; Contact Plating: Tin; Min Operating Temperature: -55°C; Max Operating Temperature: 155°C; Tolerance: 1%; Packaging: Tape and Reel; Package Quantity: 5000; Resistor Type: Thick Film; Number of Terminations: 2; Termination: SMD/SMT; Temperature Coefficient: 100ppm/°C; Max Power Dissipation: 125mW; Features: Moisture Resistant; Series: CR0805; Construction: Rectangular; Length: 2mm; Width: 0.049inch; Height: 0.024inch; Depth: 1.25mm; Thickness: 508um; Radiation Hardening: No; Military Standard: Not; RoHS Compliant: Yes; ComponentLink1URL: https://datasheet.ciiva.com/14986/chpreztr-14986043.pdf?src-supplier=Digi-Key; ComponentLink1Description: https://datasheet.ciiva.com/14986/chpreztr-14986043.pdf?src-supplier=Digi-Key; ComponentLink2URL: https://datasheet.ciiva.com/9122/chpreztr-9122286.pdf?src-supplier=Avnet; ComponentLink2Description: https://datasheet.ciiva.com/9122/chpreztr-9122286.pdf?src-supplier=Avnet; Supplier Part Number 1: 652-CR0805FX-1022ELF
footprint RESC2012X60N
pins: 1, 2

## CR0805-FX-2212ELF
designator R?
Res Thick Film 0805 22.1K Ohm 1% 1/8W ±100ppm/°C Molded SMD SMD Paper Tape on Plastic Reel; Manufacturer: Bourns; Manufacturer Part Number: CR0805-FX-2212ELF; Resistance: 22.1kR; Power Rating: 125mW; Voltage Rating: 150V; Supplier 1: Mouser; RoHS: Yes; Category: Chip SMD Resistors; Stock 1: 28517; Pricing 1: 1=0,10000, 10=0,02700, 50=0,02700, 100=0,01100, 1000=0,00500, 10000=0,00500 (USD); Mount: Surface Mount; Case/Package: 0805; Contact Plating: Tin; Case Code (Imperial): 0805; Case Code (Metric): 2012; Min Operating Temperature: -55°C; Max Operating Temperature: 155°C; Tolerance: 1%; Resistor Type: Thick Film; Temperature Coefficient: 100ppm/°C; Packaging: Tape and Reel; Package Quantity: 5000; Termination: SMD/SMT; Number of Terminations: 2; Max Power Dissipation: 125mW; Features: Moisture Resistant; Series: CR0805; Construction: Rectangular; Length: 2mm; Width: 1.25mm; Height: 0.024inch; Depth: 1.25mm; Thickness: 508um; Radiation Hardening: No; Military Standard: Not; RoHS Compliant: Yes; ComponentLink1URL: https://datasheet.ciiva.com/18608/chpreztr-18608486.pdf?src-supplier=Digi-Key; ComponentLink1Description: https://datasheet.ciiva.com/18608/chpreztr-18608486.pdf?src-supplier=Digi-Key; ComponentLink2URL: https://datasheet.ciiva.com/18608/chpreztr-18608487.pdf?src-supplier=Digi-Key; ComponentLink2Description: https://datasheet.ciiva.com/18608/chpreztr-18608487.pdf?src-supplier=Digi-Key; ComponentLink3URL: https://datasheet.ciiva.com/18608/chpreztr-18608488.pdf?src-supplier=Digi-Key; ComponentLink3Description: https://datasheet.ciiva.com/18608/chpreztr-18608488.pdf?src-supplier=Digi-Key; ComponentLink4URL: https://datasheet.ciiva.com/3205/chpreztr-3205695.pdf?src-supplier=Avnet; ComponentLink4Description: https://datasheet.ciiva.com/3205/chpreztr-3205695.pdf?src-supplier=Avnet; Supplier Part Number 1: 652-CR0805FX-2212ELF
footprint RESC2012X60N
pins: 1, 2

## CR0805-FX-3572ELF
designator R?
Res Thick Film 0805 35.7K Ohm 1% 1/8W 100ppm/C Molded SMD SMD Paper Tape on Plastic Reel; Manufacturer: Bourns; Manufacturer Part Number: CR0805-FX-3572ELF; Resistance: 35.7kR; Power Rating: 125mW; Voltage Rating: 150V; Temperature Coefficient: 100ppm/°C; Supplier 1: Mouser; RoHS: Yes; Category: Chip SMD Resistors; Stock 1: 40799; Pricing 1: 1=0,10000, 10=0,05000, 50=0,05000, 100=0,02100, 1000=0,01000, 10000=0,00500 (USD); Mount: Surface Mount; Case/Package: 0805; Case Code (Metric): 2012; Case Code (Imperial): 0805; Contact Plating: Tin; Min Operating Temperature: -55°C; Max Operating Temperature: 155°C; Packaging: Tape and Reel; Tolerance: 1%; Package Quantity: 5000; Resistor Type: Thick Film; Number of Terminations: 2; Termination: SMD/SMT; Max Power Dissipation: 125mW; Features: Moisture Resistant; Series: CR0805; Length: 0.079inch; Width: 0.049inch; Height: 0.024inch; Thickness: 508um; Radiation Hardening: No; RoHS Compliant: Yes; ComponentLink1URL: https://datasheet.ciiva.com/14985/chpreztr-14985829.pdf?src-supplier=Digi-Key; ComponentLink1Description: https://datasheet.ciiva.com/14985/chpreztr-14985829.pdf?src-supplier=Digi-Key; ComponentLink2URL: https://datasheet.ciiva.com/5543/chpreztr-5543310.pdf?src-supplier=Mouser; ComponentLink2Description: https://datasheet.ciiva.com/5543/chpreztr-5543310.pdf?src-supplier=Mouser; ComponentLink3URL: https://datasheet.ciiva.com/9121/chpreztr-9121519.pdf?src-supplier=Avnet; ComponentLink3Description: https://datasheet.ciiva.com/9121/chpreztr-9121519.pdf?src-supplier=Avnet; Supplier Part Number 1: 652-CR0805FX-3572ELF
footprint RESC0805(2012)_L (Chip Resistor, Body 2.0x1.3mm, IPC High Density)
footprint RESC0805(2012)_M (Chip Resistor, Body 2.0x1.3mm, IPC Low Density)
footprint RESC0805(2012)_N (Chip Resistor, Body 2.0x1.3mm, IPC Medium Density)
pins: 1, 2

## CRCW08051K96FKEA
designator R?
Res Thick Film 0805 1.96K Ohm 1% 1/8W ±100ppm/°C Molded SMD SMD Paper T/R; Manufacturer: Vishay; Manufacturer Part Number: CRCW08051K96FKEA; Resistance: 1.96kR; Max Power Dissipation: 125mW; Voltage Rating: 150V; Supplier 1: Mouser; RoHS: Yes; Category: Chip SMD Resistors; Stock 1: 18581; Pricing 1: 1=0,18000, 10=0,06500, 50=0,06500, 100=0,02700, 1000=0,01300, 10000=0,00900 (USD); Case/Package: 0805; Number of Pins: 2; Weight: 0.000194oz; Case Code (Imperial): 0805; Case Code (Metric): 2012; Contact Plating: Tin; Size Code: 0805; Min Operating Temperature: -55°C; Max Operating Temperature: 155°C; Tolerance: 1%; Packaging: Tape and Reel; Package Quantity: 10; Resistor Type: Thick Film; Number of Terminations: 2; Temperature Coefficient: 100ppm/°C; Features: Automotive AEC-Q200; Series: CRCW; Power Rating: 125mW; Termination: SMD/SMT; Voltage Rating (DC): 150V; Resistance Tolerance: 1%; Technology: THICK FILM; Construction: Rectangular; Length: 2mm; Width: 1.25mm; Height: 0.45mm; Depth: 1.25mm; Radiation Hardening: No; Lead Free: Lead Free; RoHS Compliant: Yes; REACH SVHC: Unknown; Military Standard: Not; ComponentLink1URL: https://datasheet.ciiva.com/11810/0900766b80d98b26-11810985.pdf?src-supplier=RSComponents; ComponentLink1Description: https://datasheet.ciiva.com/11810/0900766b80d98b26-11810985.pdf?src-supplier=RSComponents; ComponentLink2URL: https://datasheet.ciiva.com/7670/1697337-7670278.pdf?src-supplier=Element14; ComponentLink2Description: https://datasheet.ciiva.com/7670/1697337-7670278.pdf?src-supplier=Element14; ComponentLink3URL: https://datasheet.ciiva.com/16211/dcrcwe3-16211959.pdf?src-supplier=Future+Electronics; ComponentLink3Description: https://datasheet.ciiva.com/16211/dcrcwe3-16211959.pdf?src-supplier=Future+Electronics; ComponentLink4URL: https://datasheet.ciiva.com/2496/dcrcwe3-2496058.pdf?src-supplier=Digi-Key; ComponentLink4Description: https://datasheet.ciiva.com/2496/dcrcwe3-2496058.pdf?src-supplier=Digi-Key; ComponentLink5URL: https://datasheet.ciiva.com/2496/dcrcwe3-2496059.pdf?src-supplier=Digi-Key; ComponentLink5Description: https://datasheet.ciiva.com/2496/dcrcwe3-2496059.pdf?src-supplier=Digi-Key; ComponentLink6URL: https://datasheet.ciiva.com/2496/dcrcwe3-2496060.pdf?src-supplier=Digi-Key; ComponentLink6Description: https://datasheet.ciiva.com/2496/dcrcwe3-2496060.pdf?src-supplier=Digi-Key; Supplier Part Number 1: 71-CRCW08051K96FKEA
footprint RESC2013X50X30LL20T20 (Chip Resistor, 2-Leads, Body 2.00x1.25mm, IPC High Density)
footprint RESC2013X50X30ML20T20 (Chip Resistor, 2-Leads, Body 2.00x1.25mm, IPC Low Density)
footprint RESC2013X50X30NL20T20 (Chip Resistor, 2-Leads, Body 2.00x1.25mm, IPC Medium Density)
pins: 1, 2

## ERJ-3EKF27R0V
designator R?
Res Thick Film 0603 27 Ohm 1% 0.1W(1/10W) +/-100ppm/C Molded SMD Automotive Punched T/R; Manufacturer: Panasonic; Manufacturer Part Number: ERJ-3EKF27R0V; Resistance: 27R; Power Rating: 100mW; Voltage Rating: 75V; Temperature Coefficient: 100ppm/°C; Supplier 1: Mouser; RoHS: Yes; Category: Chip SMD Resistors; Mount: Surface Mount; Case/Package: 0603; Number of Pins: 2; Case Code (Metric): 1608; Case Code (Imperial): 0603; Contact Plating: Tin; Min Operating Temperature: -55°C; Max Operating Temperature: 155°C; Tolerance: 1%; Packaging: Tape and Reel; Package Quantity: 1; Resistor Type: Thick Film; Number of Terminations: 2; Termination: SMD/SMT; Max Power Dissipation: 100mW; Voltage Rating (DC): 75V; Features: Automotive AEC-Q200; Series: ERJ; Resistance Tolerance: 1%; Construction: Rectangular; Length: 1.6mm; Width: 0.031inch; Height: 0.022inch; Depth: 0.8mm; Radiation Hardening: No; REACH SVHC: Unknown; Military Standard: Not; Lead Free: Lead Free; RoHS Compliant: Yes; ComponentLink1URL: https://datasheet.ciiva.com/46381/1678782-46381559.pdf?src-supplier=Element14; ComponentLink1Description: https://datasheet.ciiva.com/46381/1678782-46381559.pdf?src-supplier=Element14; ComponentLink2URL: https://datasheet.ciiva.com/22681/1678782-22681182.pdf?src-supplier=Element14; ComponentLink2Description: https://datasheet.ciiva.com/22681/1678782-22681182.pdf?src-supplier=Element14; ComponentLink3URL: https://datasheet.ciiva.com/28568/1678782-28568703.pdf?src-supplier=Element14; ComponentLink3Description: https://datasheet.ciiva.com/28568/1678782-28568703.pdf?src-supplier=Element14; ComponentLink4URL: https://datasheet.ciiva.com/46381/1678782-46381558.pdf?src-supplier=Element14; ComponentLink4Description: https://datasheet.ciiva.com/46381/1678782-46381558.pdf?src-supplier=Element14; ComponentLink5URL: https://datasheet.ciiva.com/24069/aoa0000ce2-24069132.pdf?src-supplier=Mouser; ComponentLink5Description: https://datasheet.ciiva.com/24069/aoa0000ce2-24069132.pdf?src-supplier=Mouser; ComponentLink6URL: https://datasheet.ciiva.com/16776/70260748-16776005.pdf?src-supplier=Allied+Electronics; ComponentLink6Description: https://datasheet.ciiva.com/16776/70260748-16776005.pdf?src-supplier=Allied+Electronics; ComponentLink7URL: https://datasheet.ciiva.com/16779/70260748-16779605.pdf?src-supplier=Allied+Electronics; ComponentLink7Description: https://datasheet.ciiva.com/16779/70260748-16779605.pdf?src-supplier=Allied+Electronics; ComponentLink8URL: https://datasheet.ciiva.com/9116/aoa0000ce2-9116957.pdf?src-supplier=Avnet; ComponentLink8Description: https://datasheet.ciiva.com/9116/aoa0000ce2-9116957.pdf?src-supplier=Avnet; ComponentLink9URL: https://datasheet.ciiva.com/9191/aoa0000ce2-9191131.pdf?src-supplier=Avnet; ComponentLink9Description: https://datasheet.ciiva.com/9191/aoa0000ce2-9191131.pdf?src-supplier=Avnet; ComponentLink10URL: https://datasheet.ciiva.com/30124/aoa0000ce2-30124664.pdf?src-supplier=Onlinecomponents.com; ComponentLink10Description: https://datasheet.ciiva.com/30124/aoa0000ce2-30124664.pdf?src-supplier=Onlinecomponents.com; Supplier Part Number 1: 667-ERJ-3EKF27R0V
footprint FP-ERJ3EK-IPC_A
footprint FP-ERJ3EK-IPC_B
footprint FP-ERJ3EK-IPC_C
footprint FP-ERJ3EK-MFG
pins: 1, 2

## ERJ-3GEYJ102V
designator R?
RES SMD 1K OHM 5% 1/10W 0603; Manufacturer: Panasonic; Manufacturer Part Number: ERJ-3GEYJ102V; Resistance: 1kR; Temperature Coefficient: 200ppm/°C; Power Rating: 100mW; Voltage Rating: 75V; Voltage Rating (DC): 50V; Supplier 1: Mouser; RoHS: Yes; Category: Chip SMD Resistors; Stock 1: 2053319; Pricing 1: 1=0,10000, 10=0,04400, 50=0,04400, 100=0,01800, 1000=0,00800, 2500=0,00700, 5000=0,00500, 10000=0,00500 (USD); Mount: Surface Mount; Case/Package: 0603; Weight: 7.1E-05oz; Contact Plating: Tin; Case Code (Metric): 1608; Case Code (Imperial): 0603; Min Operating Temperature: -55°C; Max Operating Temperature: 155°C; Tolerance: 5%; Resistor Type: Thick Film; Packaging: Tape and Reel; Package Quantity: 1; Termination: SMD/SMT; Max Power Dissipation: 100mW; Number of Terminations: 2; Working Voltage: 75V; Features: Automotive AEC-Q200; Series: ERJ; Technology: THICK FILM; Construction: Rectangular; Resistance Tolerance: 5%; Length: 1.6mm; Width: 0.031inch; Height: 0.45mm; Depth: 0.8mm; Radiation Hardening: No; REACH SVHC: No SVHC; Military Standard: Not; Lead Free: Lead Free; RoHS Compliant: Yes; ComponentLink1URL: https://datasheet.ciiva.com/34303/1988487-34303608.pdf?src-supplier=Jameco; ComponentLink1Description: https://datasheet.ciiva.com/34303/1988487-34303608.pdf?src-supplier=Jameco; ComponentLink2URL: https://datasheet.ciiva.com/11808/0900766b80f806dd-11808320.pdf?src-supplier=RSComponents; ComponentLink2Description: https://datasheet.ciiva.com/11808/0900766b80f806dd-11808320.pdf?src-supplier=RSComponents; ComponentLink3URL: https://datasheet.ciiva.com/43460/1678796-43460714.pdf?src-supplier=Farnell; ComponentLink3Description: https://datasheet.ciiva.com/43460/1678796-43460714.pdf?src-supplier=Farnell; ComponentLink4URL: https://datasheet.ciiva.com/46386/1678796-46386459.pdf?src-supplier=Element14; ComponentLink4Description: https://datasheet.ciiva.com/46386/1678796-46386459.pdf?src-supplier=Element14; ComponentLink5URL: https://datasheet.ciiva.com/22783/1678796-22783822.pdf?src-supplier=Farnell; ComponentLink5Description: https://datasheet.ciiva.com/22783/1678796-22783822.pdf?src-supplier=Farnell; ComponentLink6URL: https://datasheet.ciiva.com/46371/1678796-46371934.pdf?src-supplier=Element14; ComponentLink6Description: https://datasheet.ciiva.com/46371/1678796-46371934.pdf?src-supplier=Element14; ComponentLink7URL: https://datasheet.ciiva.com/28532/1678796-28532126.pdf?src-supplier=Element14; ComponentLink7Description: https://datasheet.ciiva.com/28532/1678796-28532126.pdf?src-supplier=Element14; ComponentLink8URL: https://datasheet.ciiva.com/46451/1678796-46451226.pdf?src-supplier=Element14; ComponentLink8Description: https://datasheet.ciiva.com/46451/1678796-46451226.pdf?src-supplier=Element14; ComponentLink9URL: https://datasheet.ciiva.com/24159/aoa0000ce1-37422-24159481.pdf?src-supplier=Mouser; ComponentLink9Description: https://datasheet.ciiva.com/24159/aoa0000ce1-37422-24159481.pdf?src-supplier=Mouser; ComponentLink10URL: https://datasheet.ciiva.com/16787/70255313-16787626.pdf?src-supplier=Allied+Electronics; ComponentLink10Description: https://datasheet.ciiva.com/16787/70255313-16787626.pdf?src-supplier=Allied+Electronics; ComponentLink11URL: https://datasheet.ciiva.com/9117/aoa0000ce1-9117035.pdf?src-supplier=Avnet; ComponentLink11Description: https://datasheet.ciiva.com/9117/aoa0000ce1-9117035.pdf?src-supplier=Avnet; ComponentLink12URL: https://datasheet.ciiva.com/16740/aoa0000ce1-16740759.pdf?src-supplier=Future+Electronics; ComponentLink12Description: https://datasheet.ciiva.com/16740/aoa0000ce1-16740759.pdf?src-supplier=Future+Electronics; ComponentLink13URL: https://datasheet.ciiva.com/48532/aoa0000ce1-48532155.pdf?src-supplier=Avnet; ComponentLink13Description: https://datasheet.ciiva.com/48532/aoa0000ce1-48532155.pdf?src-supplier=Avnet; ComponentLink14URL: https://datasheet.ciiva.com/30224/4aoa0000ce1-30224167.pdf?src-supplier=Onlinecomponents.com; ComponentLink14Description: https://datasheet.ciiva.com/30224/4aoa0000ce1-30224167.pdf?src-supplier=Onlinecomponents.com; Supplier Part Number 1: 667-ERJ-3GEYJ102V
footprint FP-ERJ3G-IPC_A
footprint FP-ERJ3G-IPC_B
footprint FP-ERJ3G-IPC_C
footprint FP-ERJ3G-MFG
pins: 1, 2

## ERJ-6ENF1693V
designator R?
Res Thick Film 0805 169K Ohm 1% 1/8W ±100ppm/°C Molded SMD Punched Carrier T/R; Manufacturer: Panasonic; Manufacturer Part Number: ERJ-6ENF1693V; Resistance: 169kR; Power Rating: 125mW; Voltage Rating: 150V; Supplier 1: Mouser; RoHS: Yes; Category: Chip SMD Resistors; Stock 1: 26412; Pricing 1: 1=0,10000, 10=0,06400, 50=0,06400, 100=0,03100, 1000=0,01700, 10000=0,01100 (USD); Mount: Surface Mount; Case/Package: 0805; Contact Plating: Tin; Case Code (Imperial): 0805; Case Code (Metric): 2012; Min Operating Temperature: -55°C; Max Operating Temperature: 155°C; Tolerance: 1%; Resistor Type: Thick Film; Temperature Coefficient: 100ppm/°C; Packaging: Tape and Reel; Package Quantity: 1; Number of Terminations: 2; Termination: Solder; Max Power Dissipation: 125mW; Voltage Rating (DC): 150V; Features: Automotive AEC-Q200; Series: ERJ; Resistance Tolerance: 1%; Technology: THICK FILM; Construction: Rectangular; Length: 2mm; Width: 1.2mm; Height: 0.6mm; Depth: 1.25mm; Radiation Hardening: No; REACH SVHC: No SVHC; Military Standard: Not; Lead Free: Lead Free; RoHS Compliant: Yes; ComponentLink1URL: https://datasheet.ciiva.com/16759/70260748-16759800.pdf?src-supplier=Allied+Electronics; ComponentLink1Description: https://datasheet.ciiva.com/16759/70260748-16759800.pdf?src-supplier=Allied+Electronics; ComponentLink2URL: https://datasheet.ciiva.com/22672/1678782-22672876.pdf?src-supplier=Element14; ComponentLink2Description: https://datasheet.ciiva.com/22672/1678782-22672876.pdf?src-supplier=Element14; ComponentLink3URL: https://datasheet.ciiva.com/16764/70260748-16764845.pdf?src-supplier=Allied+Electronics; ComponentLink3Description: https://datasheet.ciiva.com/16764/70260748-16764845.pdf?src-supplier=Allied+Electronics; ComponentLink4URL: https://datasheet.ciiva.com/46373/1678782-46373037.pdf?src-supplier=Element14; ComponentLink4Description: https://datasheet.ciiva.com/46373/1678782-46373037.pdf?src-supplier=Element14; ComponentLink5URL: https://datasheet.ciiva.com/46373/1678782-46373038.pdf?src-supplier=Element14; ComponentLink5Description: https://datasheet.ciiva.com/46373/1678782-46373038.pdf?src-supplier=Element14; Supplier Part Number 1: 667-ERJ-6ENF1693V
footprint RESC2013X70X40LL20T20 (Chip Resistor, 2-Leads, Body 2.00x1.25mm, IPC High Density)
footprint RESC2013X70X40ML20T20 (Chip Resistor, 2-Leads, Body 2.00x1.25mm, IPC Low Density)
footprint RESC2013X70X40NL20T20 (Chip Resistor, 2-Leads, Body 2.00x1.25mm, IPC Medium Density)
pins: 1, 2